# Altium schematic symbol library Supernova Connectors.SchLib: 270 symbols (part 2 of 2)
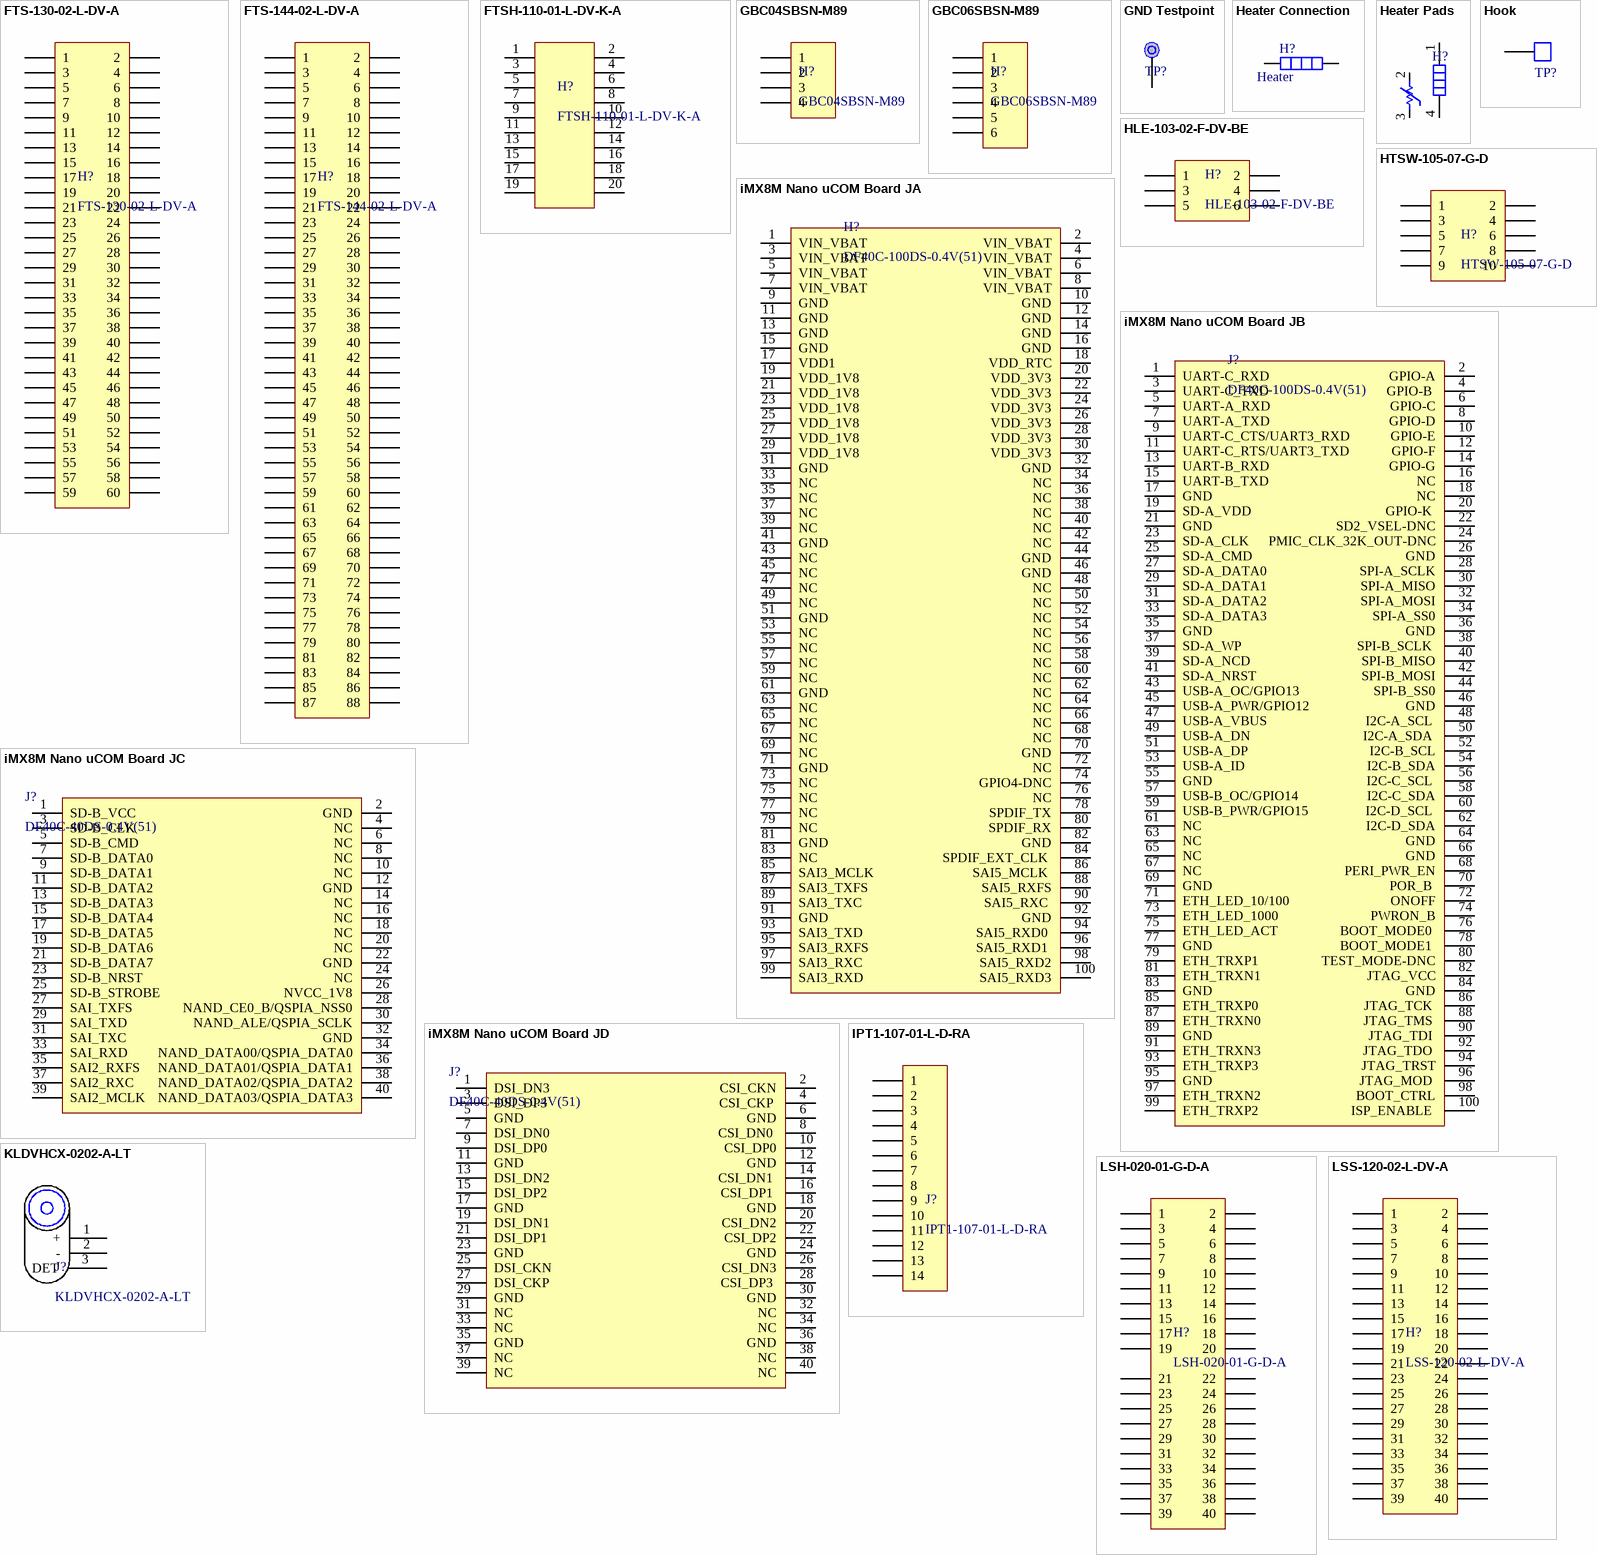
[diagram p9: symbols FTS-130-02-L-DV-A to LSS-120-02-L-DV-A]

## iMX8M Nano uCOM Board JC
designator J?, comment DF40C-40DS-0.4V(51)
CONN RCPT 40POS SMD GOLD; Manufacturer_Name: Hirose; Datasheet Link: https://www.hirose.com/product/download/?distributor=digikey&type=2d&lang=en&num=DF40C-40DS-0.4V(51); Height: 1.65mm; Manufacturer_Part_Number: DF40C-40DS-0.4V(51); Mouser Part Number: 798-DF40C40DS0.4V51; Mouser Price/Stock: https://www.mouser.co.uk/ProductDetail/Hirose-Connector/DF40C-40DS-0.4V51?qs=eDUdFcBPps3TglLeCFrcgA%3D%3D; Arrow Part Number: DF40C-40DS-0.4V(51); Arrow Price/Stock: https://www.arrow.com/en/products/df40c-40ds-0.4v-51/hirose-electric; Supplier 1: Digi-Key; Supplier 2: Mouser; Supplier Part Number 1: H11625CT-ND; Supplier Part Number 2: 798-DF40C40DS0.4V51
footprint DF40C40DS04V51 42 pins
footprint DF40C40DS04V51
pins: 1 SD-B_VCC, 2 GND, 3 SD-B_CLK, 4 NC, 5 SD-B_CMD , 6 NC, 7 SD-B_DATA0 , 8 NC, 9 SD-B_DATA1, 10 NC, 11 SD-B_DATA2 , 12 GND, 13 SD-B_DATA3, 14 NC, 15 SD-B_DATA4, 16 NC, 17 SD-B_DATA5, 18 NC, 19 SD-B_DATA6, 20 NC, 21 SD-B_DATA7, 22 GND, 23 SD-B_NRST, 24 NC, 25 SD-B_STROBE, 26 NVCC_1V8, 27 SAI_TXFS, 28 NAND_CE0_B/QSPIA_NSS0, 29 SAI_TXD, 30 NAND_ALE/QSPIA_SCLK, 31 SAI_TXC, 32 GND, 33 SAI_RXD , 34 NAND_DATA00/QSPIA_DATA0, 35 SAI2_RXFS, 36 NAND_DATA01/QSPIA_DATA1, 37 SAI2_RXC, 38 NAND_DATA02/QSPIA_DATA2, 39 SAI2_MCLK, 40 NAND_DATA03/QSPIA_DATA3

## iMX8M Nano uCOM Board JD
designator J?, comment DF40C-40DS-0.4V(51)
CONN RCPT 40POS SMD GOLD; Manufacturer_Name: Hirose; Datasheet Link: https://www.hirose.com/product/download/?distributor=digikey&type=2d&lang=en&num=DF40C-40DS-0.4V(51); Height: 1.65mm; Manufacturer_Part_Number: DF40C-40DS-0.4V(51); Mouser Part Number: 798-DF40C40DS0.4V51; Mouser Price/Stock: https://www.mouser.co.uk/ProductDetail/Hirose-Connector/DF40C-40DS-0.4V51?qs=eDUdFcBPps3TglLeCFrcgA%3D%3D; Arrow Part Number: DF40C-40DS-0.4V(51); Arrow Price/Stock: https://www.arrow.com/en/products/df40c-40ds-0.4v-51/hirose-electric; Supplier 1: Digi-Key; Supplier 2: Mouser; Supplier Part Number 1: H11625CT-ND; Supplier Part Number 2: 798-DF40C40DS0.4V51
footprint DF40C40DS04V51 42 pins
footprint DF40C40DS04V51
pins: 1 DSI_DN3, 2 CSI_CKN, 3 DSI_DP3 , 4 CSI_CKP , 5 GND, 6 GND, 7 DSI_DN0, 8 CSI_DN0 , 9 DSI_DP0, 10 CSI_DP0, 11 GND, 12 GND, 13 DSI_DN2 , 14 CSI_DN1 , 15 DSI_DP2, 16 CSI_DP1 , 17 GND, 18 GND, 19 DSI_DN1 , 20 CSI_DN2, 21 DSI_DP1 , 22 CSI_DP2, 23 GND, 24 GND, 25 DSI_CKN, 26 CSI_DN3, 27 DSI_CKP, 28 CSI_DP3 , 29 GND, 30 GND, 31 NC, 32 NC, 33 NC, 34 NC, 35 GND, 36 GND, 37 NC, 38 NC, 39 NC, 40 NC

## IPT1-107-01-L-D-RA
designator J?
Header Side Panel IPT1-107-01-L-D-RA; System: Connector; Supplier 1: Digi-Key; Supplier Part Number 1: SAM11441-ND; Supplier 2: Newark; Supplier Part Number 2: 56AC5745
footprint IPT1-107-01-L-D-RA
pins: 1, 2, 3, 4, 5, 6, 7, 8, 9, 10, 11, 12, 13, 14

## KLDVHCX-0202-A-LT
designator J?
Header Barrel Vertical; Supplier 1: Digi-Key; Supplier 2: Mouser; Supplier Part Number 1: 2092-KLDVHCX-0202-A-LT-ND; Supplier Part Number 2: 806-KLDVHCX0202-A-LT
footprint KLDVHCX-0202-A-LT
pins: 1 +, 2 -, 3 DET

## LSH-020-01-G-D-A
designator H?
Header 40 Pin LSH; System: Connector; Supplier 1: Digi-Key; Supplier 2: Mouser; Supplier 3: Digi-Key; Supplier Part Number 1: SAM9670-ND; Supplier Part Number 2: 200-LSH02001GDA; Supplier Part Number 3: SAM15427CT-ND
footprint LSH-020-01-G-D-A
pins: 1, 2, 3, 4, 5, 6, 7, 8, 9, 10, 11, 12, 13, 14, 15, 16, 17, 18, 19, 20, 21, 22, 23, 24, 25, 26, 27, 28, 29, 30, 31, 32, 33, 34, 35, 36, 37, 38, 39, 40

## LSS-120-02-L-DV-A
designator H?
Header 40 Pin LSS 6mm; System: Connector; Supplier 1: Digi-Key; Supplier Part Number 1: SAM9677-ND; Supplier 2: Newark; Supplier 3: Digi-Key; Supplier Part Number 2: 85T5354; Supplier Part Number 3: SAM11458-ND
footprint LLS-120-02-L-DV-A (40 pin hermapheroditic connector)
pins: 1, 2, 3, 4, 5, 6, 7, 8, 9, 10, 11, 12, 13, 14, 15, 16, 17, 18, 19, 20, 21, 22, 23, 24, 25, 26, 27, 28, 29, 30, 31, 32, 33, 34, 35, 36, 37, 38, 39, 40

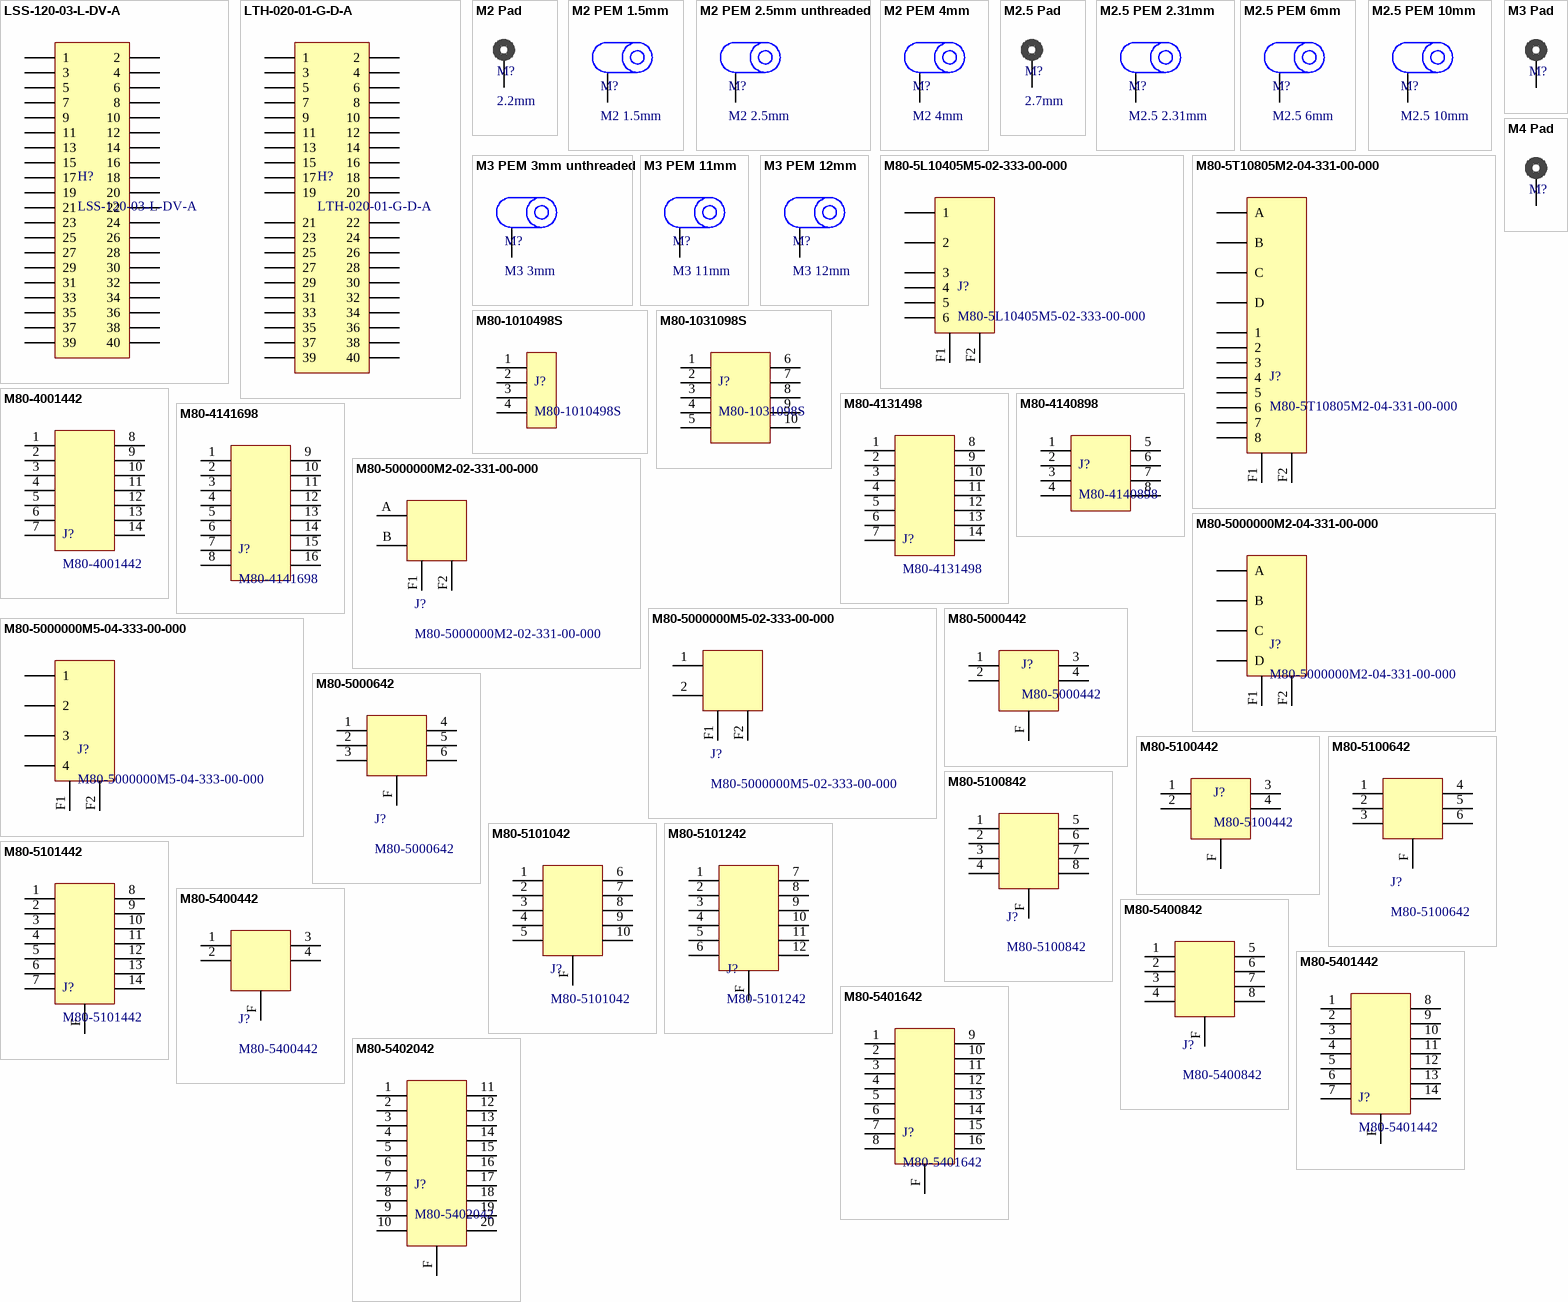
[diagram p5: symbols LSS-120-03-L-DV-A to M80-5402042]

## LSS-120-03-L-DV-A
designator H?
Header 40 Pin LSS 4mm; System: Connector; Supplier 1: Digi-Key; Supplier Part Number 1: SAM9678-ND; Supplier 2: Newark; Supplier 3: Digi-Key; Supplier Part Number 2: 85T5356; Supplier Part Number 3: LSS-120-03-L-DV-A-K-ND
footprint LLS-120-03-L-DV-A (40 pin hermapheroditic connector)
pins: 1, 2, 3, 4, 5, 6, 7, 8, 9, 10, 11, 12, 13, 14, 15, 16, 17, 18, 19, 20, 21, 22, 23, 24, 25, 26, 27, 28, 29, 30, 31, 32, 33, 34, 35, 36, 37, 38, 39, 40

## LTH-020-01-G-D-A
designator H?
Header 40 Pin LTH; System: Connector; Supplier 1: Digi-Key; Supplier 2: Mouser; Supplier 3: Digi-Key; Supplier Part Number 1: SAM12691-ND; Supplier Part Number 2: 200-LTH02001GDA; Supplier Part Number 3: SAM14178CT-ND
footprint LTH-020-01-G-D-A
pins: 1, 2, 3, 4, 5, 6, 7, 8, 9, 10, 11, 12, 13, 14, 15, 16, 17, 18, 19, 20, 21, 22, 23, 24, 25, 26, 27, 28, 29, 30, 31, 32, 33, 34, 35, 36, 37, 38, 39, 40

## M2 Pad
designator M?, comment 2.2mm  (no BOM)
Mounting Hole for M2 fasteners; System: Connector
footprint M2 HOLE
footprint M2 HOLE - single layer
footprint M2 HOLE - single layer - SM Defined
footprint M2 HOLE - SMALL - single layer - SM Defined
footprint M2 HOLE - tiny - single layer
footprint M2 HOLE - SMALL
footprint M2 HOLE - SMALL - Small Bottom
footprint M2 HOLE - RRI
pins: 1

## M2 PEM 1.5mm
designator M?, comment M2 1.5mm
PEM, M2 1.5mm; System: Connector; Supplier 1: Mouser; Supplier Part Number 1: 710-9774015243R; Supplier 2: Digi-Key; Supplier Part Number 2: 732-7069-1-ND
footprint M2 PEM 1.5mm (2.5mm M2 PEM)
footprint M2 PEM 1.5mm - NPTH (2.5mm M2 PEM)
pins: 1

## M2 PEM 2.5mm unthreaded
designator M?, comment M2 2.5mm
PEM, M2 2.5mm unthreaded; System: Connector; Supplier 1: Digi-Key; Supplier Part Number 1: 732-10939-1-ND; Supplier 2: Mouser; Supplier Part Number 2: 710-9774025943R
footprint M2 PEM 2.5mm (2.5mm M2 PEM)
footprint M2 PEM 2.5mm - NPTH (2.5mm M2 PEM)
pins: 1

## M2 PEM 4mm
designator M?, comment M2 4mm
PEM, M2 4mm; System: Connector; Supplier 1: Digi-Key; Supplier 2: Mouser; Supplier Part Number 2: 710-9774040243R; Supplier Part Number 1: 732-7090-1-ND
footprint M2 PEM 4mm (4mm M2 PEM)
footprint M2 PEM 4mm - NPTH (4mm M2 PEM)
pins: 1

## M2.5 Pad
designator M?, comment 2.7mm  (no BOM)
Mounting Hole for M2.5 fasteners; System: Connector
footprint M2.5 Hole
footprint M2.5 Hole - top-bottom
pins: 1

## M2.5 PEM 2.31mm
designator M?, comment M2.5 2.31mm
PEM, M2.5 2.31mm; Manufacturer Part Number 1: None; System: Connector
footprint M2.5 PEM 2.31mm (2.31mm M2.5 PEM)
footprint M2.5 PEM 2.31mm - NPTH (2.31mm M2.5 PEM)
pins: 1

## M2.5 PEM 6mm
designator M?, comment M2.5 6mm
PEM, M2.5 6mm; System: Connector; Supplier 1: Digi-Key; Supplier 2: Mouser; Supplier Part Number 1: 732-7102-1-ND; Supplier Part Number 2: 710-9774060151R
footprint M2.5 PEM 6mm (6mm M2.5 PEM)
footprint M2.5 PEM 6mm - NPTH (6mm M2.5 PEM)
pins: 1

## M2.5 PEM 10mm
designator M?, comment M2.5 10mm
PEM, M2.5 10mm; System: Connector; Supplier 1: Mouser; Supplier Part Number 1: 710-9774100151R; Supplier 2: Digi-Key; Supplier Part Number 2: 732-7117-1-ND
footprint M2.5 PEM 10mm (10mm M2.5 PEM)
pins: 1

## M3 Pad
designator M?, comment 3.2mm  (value not drawn)  (no BOM)
Mounting Hole for M3 fasteners; System: Connector
footprint M3 HOLE
footprint M3 HOLE - TOP
footprint M3 HOLE - TOP+BOTTOM
pins: 1

## M3 PEM 3mm unthreaded
designator M?, comment M3 3mm
PEM, M3 3mm unthreaded; System: Connector; Supplier 1: Mouser; Supplier Part Number 1: 710-9774030960R; Supplier 2: Digi-Key; Supplier Part Number 2: 732-7087-1-ND
footprint 3mm PEM 3mm
pins: 1

## M3 PEM 11mm
designator M?, comment M3 11mm
PEM, M3 11mm; System: Connector; Supplier 1: Digi-Key; Supplier Part Number 1: 732-5278-1-ND; Supplier 2: Mouser; Supplier Part Number 2: 710-9774110360R
footprint M3 PEM 11mm
footprint M3 PEM 11mm - NPTH
pins: 1

## M3 PEM 12mm
designator M?, comment M3 12mm
PEM, M3 12mm; System: Connector; Supplier 1: Digi-Key; Supplier Part Number 1: 732-5279-1-ND; Supplier 2: Mouser; Supplier Part Number 2: 710-9774120360R
footprint M3 PEM 12mm
footprint M3 PEM 12mm - NPTH
pins: 1

## M4 Pad
designator M?, comment 4.4mm  (value not drawn)  (no BOM)
Mounting Hole for M4 fasteners; System: Connector
footprint M4 HOLE
pins: 1

## M80-5L10405M5-02-333-00-000
designator J?
Header M80 2POS Power + 4signal RA Screw-lock; System: Connector; Supplier 1: Mouser; Supplier Part Number 1: 855-M805L10405M50233; Supplier 2: Digi-Key; Supplier Part Number 2: 952-2923-ND; Supplier 3: Farnell; Supplier Part Number 3: 2853745
footprint M80-5L10405M5-02-333-00-000
pins: 1, 2, 3, 4, 5, 6, F1 F, F2 F

## M80-5T10805M2-04-331-00-000
designator J?
Header M80 4POS Power + 8signal Screw-lock; System: Connector; Supplier 1: Mouser; Supplier Part Number 1: 855-M805L10405M50233; Supplier 2: Digi-Key; Supplier Part Number 2: 952-2923-ND; Supplier 3: Farnell; Supplier Part Number 3: 2853745
footprint M80-5T10805M2-04-331-00-000 - no silk
footprint M80-5T10805M2-04-331-00-000
footprint M80-5T10805M2-04-331-00-000 - no silk - nuts
pins: 1, 2, 3, 4, 5, 6, 7, 8, A, B, C, D, F1 F, F2 F

## M80-1010498S
designator J?
Housing M80 4POS Latch-lock Single Row; Value: 14 Power Pins; Package / Case: THT, RA; Operating Temperature: -55°C ~ 85°C; Supplier 1: Digi-Key; Supplier 2: Mouser; Supplier Part Number 1: 952-3521-ND; Supplier Part Number 2: 855-M80-1010498S
pins: 1, 2, 3, 4

## M80-1031098S
designator J?
Housing M80 10POS Latch-lock; Value: 14 Power Pins; Package / Case: THT, RA; Operating Temperature: -55°C ~ 85°C; Supplier 1: Mouser; Supplier 2: Digi-Key; Supplier Part Number 1: 855-M80-1031098S; Supplier Part Number 2: 952-3527-ND
pins: 1, 2, 3, 4, 5, 6, 7, 8, 9, 10

## M80-4001442
designator J?
Header M80 14POS Vertical Screw-lock Female; Manufacturer: Harwin; Manufacturer Part Number: M80-5101442; Value: 14 Power Pins; System: Connector; Package / Case: THT, RA; Operating Temperature: -55°C ~ 85°C; Supplier 1: Mouser; Supplier Part Number 1: 855-M80-5101405; Supplier 2: Digi-Key; Supplier 3: Mouser; Supplier Part Number 2: 952-1886-ND; Supplier Part Number 3: 855-M80-4001442
footprint M80-4001442
pins: 1, 2, 3, 4, 5, 6, 7, 8, 9, 10, 11, 12, 13, 14

## M80-4131498
designator J?
Housing M80 14POS Screw-lock; Value: 14 Power Pins; Package / Case: THT, RA; Operating Temperature: -55°C ~ 85°C; Supplier 1: Mouser; Supplier 2: Digi-Key; Supplier Part Number 1: 855-M80-4131498; Supplier Part Number 2: 952-3702-ND
pins: 1, 2, 3, 4, 5, 6, 7, 8, 9, 10, 11, 12, 13, 14

## M80-4140898
designator J?
Housing M80 8POS Screw-lock; Value: 14 Power Pins; Package / Case: THT, RA; Operating Temperature: -55°C ~ 85°C; Supplier 1: Mouser; Supplier 2: Digi-Key; Supplier Part Number 2: 952-3732-ND; Supplier Part Number 1: 855-M80-4140898
pins: 1, 2, 3, 4, 5 8, 6, 7, 8

## M80-4141698
designator J?
Housing M80 16POS Screw-lock; Value: 14 Power Pins; Package / Case: THT, RA; Operating Temperature: -55°C ~ 85°C; Supplier 1: Digi-Key; Supplier Part Number 1: 952-3736-ND; Supplier 2: Mouser; Supplier Part Number 2: 855-M80-4141698
pins: 1, 2, 3, 4, 5, 6, 7, 8, 9, 10, 11, 12, 13, 14, 15, 16

## M80-5000000M2-02-331-00-000
designator J?
Header M80 2POS Power Screw-lock; Manufacturer: Harwin; System: Connector; Operating Temperature: -55°C ~ 85°C; Supplier 1: Digi-Key; Supplier Part Number 1: 952-2577-ND; Supplier 2: Mouser; Supplier Part Number 2: 855-M805M202331
footprint M80-5000000M2-02-331-00-000
footprint M80-5000000M2-02-331-00-000 - No Silk
footprint M80-5000000M2-02-331-00-000 - No Silk - nuts
footprint M80-5000000M2-02-331-00-000 - nuts
pins: A, B, F1 F, F2 F

## M80-5000000M2-04-331-00-000
designator J?
Header M80 4POS Power Screw-lock; System: Connector; Supplier 1: Mouser; Supplier Part Number 1: 855-M80500000M204331; Supplier 2: Digi-Key; Supplier Part Number 2: 952-1652-ND
footprint M80-5000000M2-04-331-00-000 - no silk
footprint M80-5000000M2-04-331-00-000
footprint M80-5000000M2-04-331-00-000 - no silk - nuts
pins: A, B, C, D, F1 F, F2 F

## M80-5000000M5-02-333-00-000
designator J?
Header M80 2POS Power RA Screw-lock; Manufacturer: Harwin; Manufacturer Part Number: M80-5401442; Value: 14 Power Pins; System: Connector; Package / Case: THT, RA; Operating Temperature: -55°C ~ 85°C; Supplier 1: Digi-Key; Supplier Part Number 1: 952-2578-ND; Supplier 2: Mouser; Supplier Part Number 2: 855-M805000M50233300
footprint M80-5000000M5-02-333-00-000
footprint M80-5000000M5-02-333-00-000 - button screws
pins: 1, 2, F1 F, F2 F

## M80-5000000M5-04-333-00-000
designator J?
Header M80 4POS Power RA Screw-lock; System: Connector; Supplier 1: Digi-Key; Supplier Part Number 1: 952-3955-5-ND; Supplier 2: Mouser; Supplier Part Number 2: 855-M805000000M50433
footprint M80-5000000M5-04-333-00-000
pins: 1, 2, 3, 4, F1 F, F2 F

## M80-5000442
designator J?
Header M80 4POS Vertical Screw-lock no studs; Manufacturer: Harwin; Manufacturer Part Number: M80-5101442; Value: 14 Power Pins; System: Connector; Package / Case: THT, RA; Operating Temperature: -55°C ~ 85°C; Supplier 1: Mouser; Supplier Part Number 1: 855-M80-5100442; Supplier 2: Digi-Key; Supplier Part Number 2: 952-2343-ND
footprint M80-5000442
footprint M80-5000442 - no holes
pins: 1, 2, 3, 4, F

## M80-5000642
designator J?
Header M80 6POS Vertical Screw-lock no studs; Manufacturer: Harwin; Manufacturer Part Number: M80-5101442; Value: 14 Power Pins; System: Connector; Package / Case: THT, RA; Operating Temperature: -55°C ~ 85°C; Supplier 1: Mouser; Supplier Part Number 1: 855-M80-5000642; Supplier 2: Digi-Key; Supplier Part Number 2: 952-1000-5-ND
footprint M80-5000642
footprint M80-5000642 - no holes
pins: 1, 2, 3, 4, 5, 6, F

## M80-5100442
designator J?
Header M80 4POS Vertical Screw-lock; Manufacturer: Harwin; Manufacturer Part Number: M80-5101442; Value: 14 Power Pins; System: Connector; Package / Case: THT, RA; Operating Temperature: -55°C ~ 85°C; Supplier 1: Digi-Key; Supplier Part Number 1: 952-2343-ND; Supplier 2: Mouser; Supplier Part Number 2: 855-M80-5100442
footprint M80-5100442
pins: 1, 2, 3, 4, F

## M80-5100642
designator J?
Header M80 6POS Vertical Screw-lock; Manufacturer: Harwin; Manufacturer Part Number: M80-5101442; Value: 14 Power Pins; System: Connector; Package / Case: THT, RA; Operating Temperature: -55°C ~ 85°C; Supplier 1: Digi-Key; Supplier Part Number 1: 952-3550-ND; Supplier 2: Newark; Supplier Part Number 2: 45AJ6518
footprint M80-5100642
pins: 1, 2, 3, 4, 5, 6, F

## M80-5100842
designator J?
Header M80 8POS Vertical Screw-lock; Manufacturer: Harwin; Manufacturer Part Number: M80-5101442; Value: 14 Power Pins; System: Connector; Package / Case: THT, RA; Operating Temperature: -55°C ~ 85°C; Supplier 1: Digi-Key; Supplier Part Number 1: 952-2341-ND; Supplier 2: Mouser; Supplier Part Number 2: 855-M80-5100842
footprint M80-5100842
pins: 1, 2, 3, 4, 5, 6, 7, 8, F

## M80-5101042
designator J?
Header M80 10POS Vertical Screw-lock; Manufacturer: Harwin; Manufacturer Part Number: M80-5101442; Value: 14 Power Pins; System: Connector; Package / Case: THT, RA; Operating Temperature: -55°C ~ 85°C; Supplier 1: Digi-Key; Supplier 2: Mouser; Supplier 3: Mouser; Supplier 4: Digi-Key; Supplier Part Number 1: 952-1009-5-ND; Supplier Part Number 4: 952-2914-ND; Supplier Part Number 2: 855-M80-5101042; Supplier Part Number 3: 855-M80-5101022
footprint M80-5101042
footprint M80-5101042 - NO SILK
footprint M80-5101042 - NO SILK - NUTS
pins: 1, 2, 3, 4, 5, 6, 7, 8, 9, 10, F

## M80-5101242
designator J?
Header M80 12POS Vertical Screw-lock; Manufacturer: Harwin; Manufacturer Part Number: M80-5101442; Value: 14 Power Pins; System: Connector; Package / Case: THT, RA; Operating Temperature: -55°C ~ 85°C; Supplier 1: Digi-Key; Supplier Part Number 1: 952-2580-ND; Supplier 2: Mouser; Supplier Part Number 2: 855-M80-5101242
footprint M80-5101242
pins: 1, 2, 3, 4, 5, 6, 7, 8, 9, 10, 11, 12, F

## M80-5101442
designator J?
Header M80 14POS Vertical Screw-lock; Manufacturer: Harwin; Value: 14 Power Pins; System: Connector; Mass_g: 2.198; Manufacturer Part Number: M80-5101442; Package / Case: THT, RA; Operating Temperature: -55°C ~ 85°C; Supplier 1: Digi-Key; Supplier Part Number 1: 952-1010-5-ND; Supplier 2: Mouser; Supplier 3: Newark; Supplier 4: Mouser; Supplier Part Number 2: 855-M80-5101442; Supplier Part Number 3: 92K7305; Supplier Part Number 4: 855-M80-5101405
footprint M80-5101442
pins: 1, 2, 3, 4, 5, 6, 7, 8, 9, 10, 11, 12, 13, 14, F

## M80-5400442
designator J?
Header M80 4POS RA Screw-lock; Manufacturer: Harwin; Manufacturer Part Number: M80-5401442; Value: 8 Power Pins; System: Connector; Package / Case: THT, RA; Operating Temperature: -55°C ~ 85°C; Supplier 1: Digi-Key; Supplier Part Number 1: 952-2583-ND; Supplier 2: Mouser; Supplier Part Number 2: 855-M80-5400442
footprint M80-5400442 (4 pin Datamate connector Male Horizontal PC Tail)
pins: 1, 2, 3, 4, F

## M80-5400842
designator J?
Header M80 8POS RA Screw-lock; Manufacturer: Harwin; Manufacturer Part Number: M80-5401442; Value: 8 Power Pins; System: Connector; Package / Case: THT, RA; Operating Temperature: -55°C ~ 85°C; Supplier 1: Digi-Key; Supplier Part Number 1: 952-2584-ND; Supplier 2: Mouser; Supplier 3: Mouser; Supplier Part Number 2: 855-M80-5400842; Supplier Part Number 3: 855-M80-5400805
footprint M80-5400842 (8 pin Datamate connector Male Horizontal PC Tail)
pins: 1, 2, 3, 4, 5, 6, 7, 8, F

## M80-5401442
designator J?
Header M80 14POS RA Screw-lock; Manufacturer: Harwin; Value: 14 Power Pins; System: Connector; Mass_g: 2.198; Manufacturer Part Number: M80-5401442; Supplier 1: Digi-Key; Supplier Part Number 1: 952-1026-5-ND; Package / Case: THT, RA; Operating Temperature: -55°C ~ 85°C; Supplier 2: Mouser; Supplier 3: Newark; Supplier Part Number 2: 855-M80-5401442; Supplier Part Number 3: 92K7321
footprint M80-5401442 (14 pin Datamate connector Male Horizontal PC Tail)
footprint M80-5401442 - button screws (14 pin Datamate connector Male Horizontal PC Tail)
pins: 1, 2, 3, 4, 5, 6, 7, 8, 9, 10, 11, 12, 13, 14, F

## M80-5401642
designator J?
Header M80 16POS RA Screw-lock; Manufacturer: Harwin; Manufacturer Part Number: M80-5401442; Value: 14 Power Pins; System: Connector; Package / Case: THT, RA; Operating Temperature: -55°C ~ 85°C; Supplier 1: Mouser; Supplier 2: Digi-Key; Supplier Part Number 1: 855-M80-5401642; Supplier Part Number 2: M80-5401642-ND
footprint M80-5401642 (16 pin Datamate connector Male Horizontal PC Tail)
pins: 1, 2, 3, 4, 5, 6, 7, 8, 9, 10, 11, 12, 13, 14, 15, 16, F

## M80-5402042
designator J?
Header M80 20POS RA Screw-lock; Manufacturer: Harwin; Manufacturer Part Number: M80-5401442; Value: 20 Power Pins; System: Connector; Mass_g: 2.467; Package / Case: THT, RA; Operating Temperature: -55°C ~ 85°C; Supplier 1: Digi-Key; Supplier Part Number 1: 952-1027-5-ND; Supplier 2: Newark; Supplier Part Number 2: 92K7322; Supplier 3: Mouser; Supplier Part Number 3: 855-M80-5402005
footprint M80-5402042 (16 pin Datamate connector Male Horizontal PC Tail)
footprint M80-5402042 - BUTTON SCREWS (20 pin Datamate connector Male Horizontal PC Tail)
pins: 1, 2, 3, 4, 5, 6, 7, 8, 9, 10, 11, 12, 13, 14, 15, 16, 17, 18, 19, 20, F

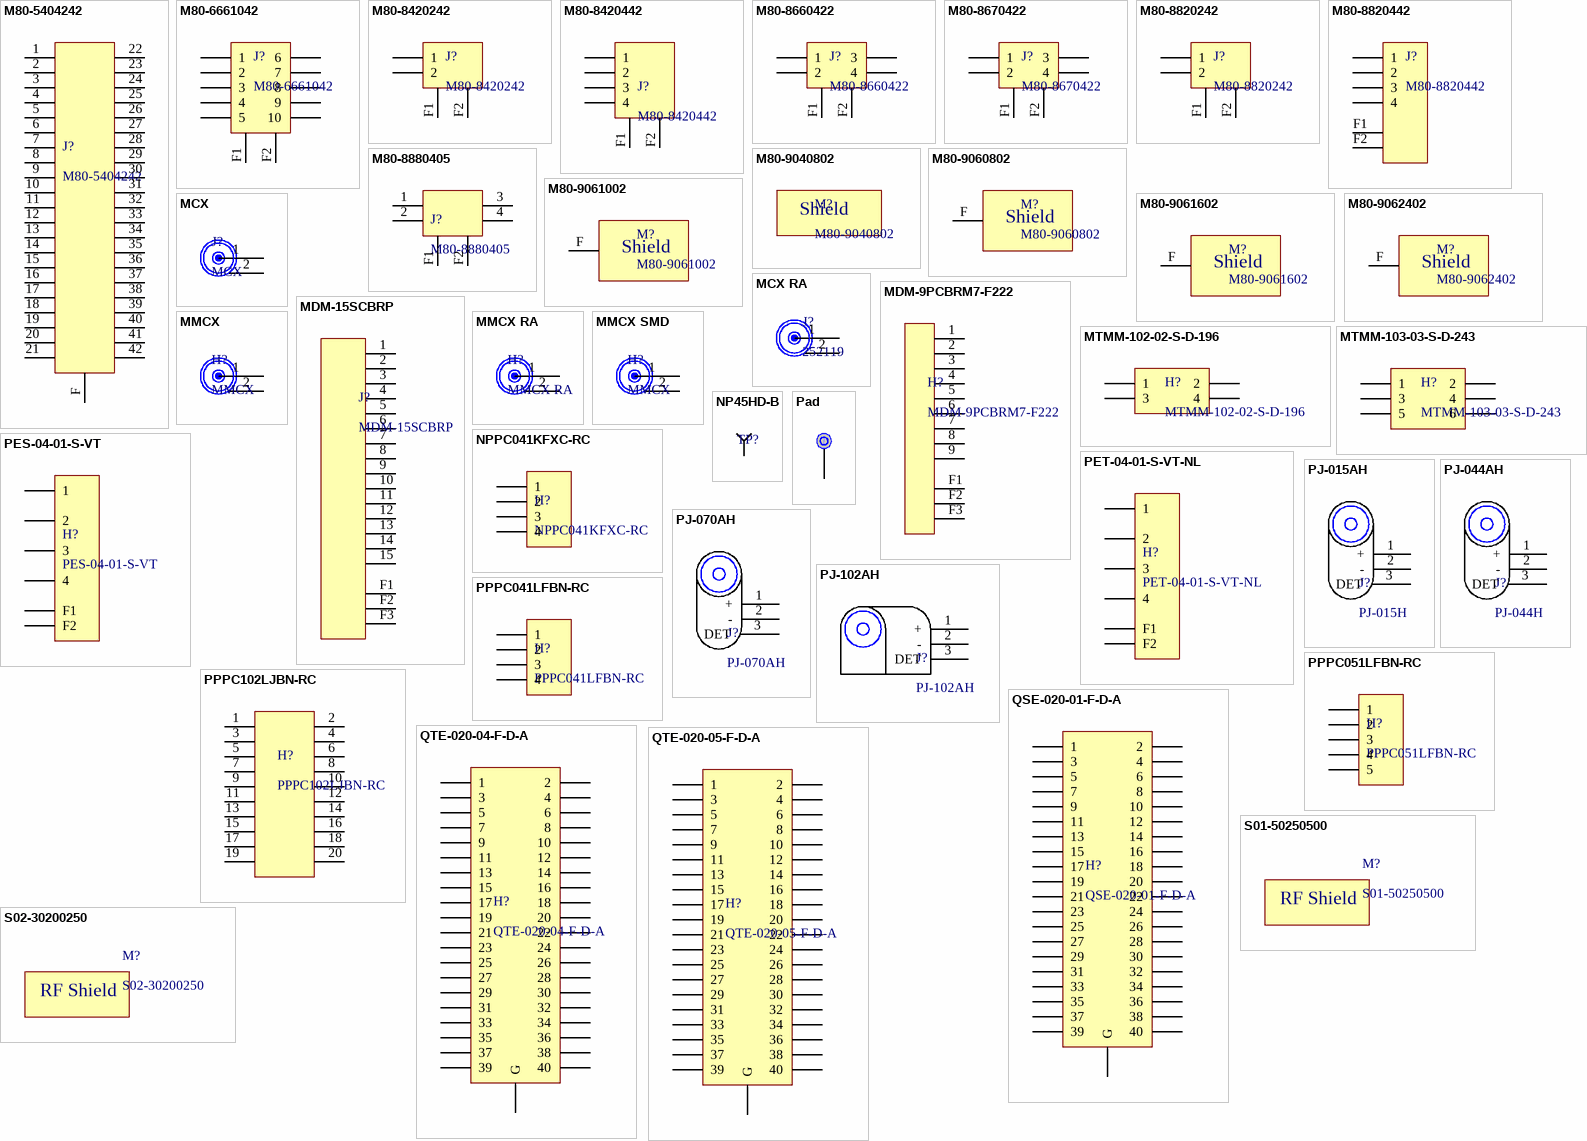
[diagram p6: symbols M80-5404242 to S02-30200250]

## M80-5404242
designator J?
Header M80 42POS RA Screw-lock; Manufacturer: Harwin; Manufacturer Part Number: M80-5401442; Value: 20 Power Pins; System: Connector; Mass_g: 2.467; Package / Case: THT, RA; Operating Temperature: -55°C ~ 85°C; Supplier 1: Digi-Key; Supplier Part Number 1: 952-1030-5-ND; Supplier 2: Mouser; Supplier Part Number 2: 855-M80-5404242; Supplier 3: Newark; Supplier Part Number 3: 56AC6233
footprint M80-5404242 (42 pin Datamate connector Male Horizontal PC Tail)
pins: 1, 2, 3, 4, 5, 6, 7, 8, 9, 10, 11, 12, 13, 14, 15, 16, 17, 18, 19, 20, 21, 22, 23, 24, 25, 26, 27, 28, 29, 30, 31, 32, 33, 34, 35, 36, 37, 38, 39, 40, 41, 42, F

## M80-6661042
designator J?
Header M80 10POS RA Latch-lock; System: Connector; Supplier 1: Digi-Key; Supplier Part Number 1: 952-2098-ND; Supplier 2: Newark; Supplier Part Number 2: 74M3474; Supplier 3: Mouser; Supplier Part Number 3: 855-M80-6661042
footprint M80-6661042
pins: 1, 2, 3, 4, 5, 6, 7, 8, 9, 10, F1 F, F2 F

## M80-8420242
designator J?
Header M80 2POS RA Latch-lock; System: Connector; Supplier 1: Digi-Key; Supplier Part Number 1: 952-1076-5-ND; Supplier 2: Mouser; Supplier Part Number 2: 855-M80-8420242
footprint M80-8420242
pins: 1, 2, F1 F, F2 F

## M80-8420442
designator J?
Header M80 4POS RA Latch-lock; System: Connector; Supplier 1: Digi-Key; Supplier Part Number 1: 952-1078-5-ND; Supplier 2: Mouser; Supplier Part Number 2: 855-M80-8420442
footprint M80-8420442
pins: 1, 2, 3, 4, F1 F, F2 F

## M80-8660422
designator J?
Header M80 4POS RA Latch-lock; System: Connector; Supplier 1: Digi-Key; Supplier Part Number 1: 952-2588-ND; Supplier 2: Newark; Supplier 3: Mouser; Supplier Part Number 2: 01E9547; Supplier Part Number 3: 855-M80-8660422
footprint M80-8660422
pins: 1, 2, 3, 4, F1 F, F2 F

## M80-8670422
designator J?
Header M80 4POS Veritcal Latch-lock; System: Connector; Supplier 1: Digi-Key; Supplier Part Number 1: 952-2414-5-ND; Supplier 2: Newark; Supplier 3: Mouser; Supplier 4: Newark; Supplier Part Number 2: 01E9554; Supplier Part Number 3: 855-M80-8670422; Supplier Part Number 4: 97W2387
footprint M80-8670422
pins: 1, 2, 3, 4, F1 F, F2 F

## M80-8820242
designator J?
Header M80 2POS Latch-lock; System: Connector; Supplier 1: Digi-Key; Supplier Part Number 1: 952-1069-5-ND; Supplier 2: Mouser; Supplier Part Number 2: 855-M80-8820242
footprint M80-8820242
pins: 1, 2, F1 F, F2 F

## M80-8820442
designator J?
Header M80 4POS Veritcal Single Row Latch-lock; System: Connector; Supplier 1: Digi-Key; Supplier Part Number 1: 952-1071-5-ND; Supplier 2: Mouser; Supplier 3: Newark; Supplier 4: Newark; Supplier Part Number 2: 855-M80-8820442; Supplier Part Number 3: 63K4385; Supplier Part Number 4: 75Y6432
footprint M80-8820442
pins: 1, 2, 3, 4, F1 F, F2 F

## M80-8880405
designator J?
Housing M80 4POS Latch-lock; Value: 14 Power Pins; Package / Case: THT, RA; Operating Temperature: -55°C ~ 85°C; Supplier 1: Mouser; Supplier 2: Digi-Key; Supplier Part Number 1: 855-M80-8880405; Supplier Part Number 2: 952-1196-ND
pins: 1, 2, 3, 4, F1 F, F2 F

## M80-9040802
designator M?
M80 Shield 8 pin RA; Supplier 1: Digi-Key; Supplier Part Number 1: 952-4159-ND; Supplier 2: Mouser; Supplier Part Number 2: 855-M80-9060802
footprint M80-9040802
footprint M80-9040802 - No Holes
text: Shield

## M80-9060802
designator M?
M80 Shield 8 pin; Supplier 1: Digi-Key; Supplier Part Number 1: 952-4159-ND; Supplier 2: Mouser; Supplier Part Number 2: 855-M80-9060802
footprint M80-9060802
pins: F 38
text: Shield

## M80-9061002
designator M?
M80 Shield 10 pin; Supplier 1: Mouser; Supplier Part Number 1: 855-M80-9061002; Supplier 2: Digi-Key; Supplier Part Number 2: 952-4140-ND
footprint M80-9061002
pins: F 38
text: Shield

## M80-9061602
designator M?
M80 Shield 16 pin; Supplier 1: Mouser; Supplier Part Number 1: 855-M80-9061602; Supplier 2: Digi-Key; Supplier Part Number 2: 952-4161-ND
footprint m80-9061602
pins: F 38
text: Shield

## M80-9062402
designator M?
M80 Shield 24 pin; Supplier 1: Mouser; Supplier Part Number 1: 855-M80-9062402; Supplier 2: Digi-Key; Supplier Part Number 2: 952-4162-ND
footprint m80-9062402
pins: F 38
text: Shield

## MCX
designator J?
Header MCX Through-hole vertical; Supplier 1: Digi-Key; Supplier Part Number 1: SAM8944-ND; Supplier 2: Newark; Supplier 3: Digi-Key; Supplier Part Number 2: 56AC6098; Supplier Part Number 3: J539-ND
footprint MCX
pins: 1 7, 2 7

## MCX RA
designator J?, comment 252119
Connector MCX RA; Supplier 1: Digi-Key; Supplier 2: Mouser; Supplier Part Number 1: ACX1260-ND; Supplier Part Number 2: 523-252119
pins: 1 7, 2 7

## MDM-9PCBRM7-F222
designator H?
Header microD 9 pin; System: Connector; Supplier 1: Newark; Supplier Part Number 1: 73H6073; Supplier 2: Digi-Key; Supplier Part Number 2: IMDM-9PCBRM7-F222-ND
footprint microD 9
pins: 1 0, 2 0, 3 0, 4 0, 5 0, 6 0, 7 0, 8 0, 9 0, F1 F, F2 F, F3 F

## MDM-15SCBRP
designator J?
Header microD 15 pin; System: Connector; Supplier 1: Digi-Key; Supplier 2: Newark; Supplier Part Number 1: 1003-1282-ND; Supplier Part Number 2: 20M4865
footprint microD 15
pins: 1 0, 2 0, 3 0, 4 0, 5 0, 6 0, 7 0, 8 0, 9 0, 10 1, 11 2, 12 3, 13 4, 14 5, 15 6, F1 F, F2 F, F3 F

## MMCX
designator H?
Header MMCX Through-hole vertical; Mass_g: 0.26; Supplier 1: Digi-Key; Supplier Part Number 1: WM9481-ND; Supplier 2: Digi-Key; Supplier 3: Digi-Key; Supplier Part Number 2: WM5557-ND; Supplier Part Number 3: SAM10617-ND
footprint mmcx
pins: 1 7, 2 7

## MMCX RA
designator H?
Header MMCX Through-hole Right angle; Supplier 1: Digi-Key; Supplier Part Number 1: SAM10615-ND; Supplier 2: Digi-Key; Supplier Part Number 2: J599-ND; Supplier 3: Digi-Key; Supplier Part Number 3: WM5552-ND
footprint mmcx-RA
pins: 1 7, 2 7

## MMCX SMD
designator H?, comment MMCX
Header MMCX SMD vertical; Supplier 1: Digi-Key; Supplier Part Number 1: 732-14187-1-ND; Supplier 2: Digi-Key; Supplier Part Number 2: J10059CT-ND
footprint mmcx - SMD
pins: 1 7, 2 7

## MTMM-102-02-S-D-196
designator H?
Header 2x2 TH thru-board 2mm; System: Connector; Supplier 1: Digi-Key; Supplier 2: Digi-Key; Supplier Part Number 2: MTMM-102-02-G-D-196-ND; Supplier Part Number 1: MTMM-102-02-S-D-196-ND
footprint MTMM-102-02-S-D-196
pins: 1, 2, 3, 4

## MTMM-103-03-S-D-243
designator H?
Header 3x2 TH thru-board 2mm; System: Connector; Supplier 1: Digi-Key; Supplier Part Number 1: MTMM-103-03-G-D-243-ND; Supplier 2: Digi-Key; Supplier Part Number 2: MTMM-103-03-G-D-000-ND
footprint MTMM-103-03-S-D-243
pins: 1, 2, 3, 4, 5, 6

## NP45HD-B
designator TP?, comment Spring Contact  (value not drawn)  (no BOM)
footprint NP45HD-B
pins: 1

## NPPC041KFXC-RC
designator H?
Header 4x1 SMT; System: Connector; Supplier 1: Digi-Key; Supplier Part Number 1: S5635-ND; Supplier 2: Digi-Key; Supplier 3: Digi-Key; Supplier Part Number 2: SAM1148-04-ND; Supplier Part Number 3: SAM1152-04-ND
footprint 4 Pin Header SMT Vert
pins: 1, 2, 3, 4

## Pad
designator TP?  (value not drawn)  (no BOM)
Testpoint Pad
footprint Pad
footprint TH PAD
pins: 1

## PES-04-01-S-VT
designator H?
Header 4 Pin PES; System: Connector; Supplier 1: Digi-Key; Supplier Part Number 1: SAM12737-ND
footprint PES-04-01-S-VT
pins: 1, 2, 3, 4, F1, F2

## PET-04-01-S-VT-NL
designator H?
Header 4 Pin PET; System: Connector; Supplier 1: Digi-Key; Supplier 2: Digi-Key; Supplier Part Number 1: SAM16022-ND; Supplier Part Number 2: SAM11555-ND
footprint PET-04-01-S-VT-NL
pins: 1, 2, 3, 4, F1, F2

## PJ-015AH
designator J?, comment PJ-015H
Header Barrel Vertical SMT; Supplier 1: Digi-Key; Supplier Part Number 1: CP-015AHPJ-CT-ND; Supplier 2: Mouser; Supplier Part Number 2: 490-PJ-015AH-SMT-TR
footprint PJ-015AH
pins: 1 +, 2 -, 3 DET

## PJ-044AH
designator J?, comment PJ-044H
Header Barrel Veritcal TH; Supplier 1: Digi-Key; Supplier Part Number 1: CP-044AH-ND; Supplier 2: Mouser; Supplier Part Number 2: 490-PJ-044AH
footprint PJ-044AH
pins: 1 +, 2 -, 3 DET

## PJ-070AH
designator J?
Header Barrel Vertical SMT; Supplier 1: Digi-Key; Supplier Part Number 1: CP-070AHPJDKR-ND; Supplier 2: Mouser; Supplier Part Number 2: 490-PJ-070AH-SMT-TR
footprint PJ-070BH
pins: 1 +, 2 -, 3 DET

## PJ-102AH
designator J?
Header Barrel RA TH; Supplier 1: Digi-Key; Supplier Part Number 1: CP-102AH-ND; Supplier 2: Mouser; Supplier Part Number 2: 490-PJ-102AH
footprint PJ-102AH
pins: 1 +, 2 -, 3 DET

## PPPC041LFBN-RC
designator H?
Header 4x1 TH; System: Connector; Supplier 1: Digi-Key; Supplier Part Number 1: S7037-ND; Supplier 2: Digi-Key; Supplier Part Number 2: 952-1791-ND
footprint 4 pin TH header Vert
pins: 1, 2, 3, 4

## PPPC051LFBN-RC
designator H?
Header 5x1 TH; System: Connector; Supplier 1: Digi-Key; Supplier Part Number 1: S7038-ND; Supplier 2: Digi-Key; Supplier Part Number 2: 952-1801-ND
footprint 5 pin TH header Vert
pins: 1, 2, 3, 4, 5

## PPPC102LJBN-RC
designator H?
Header 10x2 TH RA; System: Connector; Supplier 1: Digi-Key; Supplier 2: Digi-Key; Supplier Part Number 1: S5563-ND; Supplier Part Number 2: S9205-ND
footprint PPPC102LJBN-RC
pins: 1, 2, 3, 4, 5, 6, 7, 8, 9, 10, 11 1, 12, 13, 14, 15, 16, 17, 18, 19, 20

## QSE-020-01-F-D-A
designator H?
Header 40 Pin QSE; System: Connector; Supplier 1: Digi-Key; Supplier 2: Digi-Key; Supplier Part Number 1: SAM8123-ND; Supplier Part Number 2: SAM8955-ND
footprint QSE-020-01-F-D-A
pins: 1, 2, 3, 4, 5, 6, 7, 8, 9, 10, 11, 12, 13, 14, 15, 16, 17, 18, 19, 20, 21, 22, 23, 24, 25, 26, 27, 28, 29, 30, 31, 32, 33, 34, 35, 36, 37, 38, 39, 40, G

## QTE-020-04-F-D-A
designator H?
Header 40 Pin QTE 16mm; System: Connector; Supplier 1: Digi-Key; Supplier Part Number 1: SAM14254CT-ND; Supplier 2: Digi-Key; Supplier Part Number 2: SAM11610-ND; Supplier 3: Digi-Key; Supplier Part Number 3: SAM12778-ND; Supplier 4: Digi-Key; Supplier Part Number 4: 612-QTE-020-04-L-D-A-K-TRCT-ND
footprint QTE-020-04-F-D-A
pins: 1, 2, 3, 4, 5, 6, 7, 8, 9, 10, 11, 12, 13, 14, 15, 16, 17, 18, 19, 20, 21, 22, 23, 24, 25, 26, 27, 28, 29, 30, 31, 32, 33, 34, 35, 36, 37, 38, 39, 40, G

## QTE-020-05-F-D-A
designator H?
Header 40 Pin QTE 19mm; System: Connector; Supplier 1: Digi-Key; Supplier Part Number 2: SAM10661-ND; Supplier Part Number 1: SAM9807-ND; Supplier 2: Digi-Key
footprint QTE-020-05-F-D-A
pins: 1, 2, 3, 4, 5, 6, 7, 8, 9, 10, 11, 12, 13, 14, 15, 16, 17, 18, 19, 20, 21, 22, 23, 24, 25, 26, 27, 28, 29, 30, 31, 32, 33, 34, 35, 36, 37, 38, 39, 40, G

## S01-50250500
designator M?
EMI Shield; Supplier 1: Digi-Key; Supplier Part Number 1: 952-2642-ND; Supplier 2: Mouser; Supplier Part Number 2: 855-S01-50250500
footprint S01-50250500 (RF Shield)
text: RF Shield

## S02-30200250
designator M?
EMI Shield; Supplier 1: Digi-Key; Supplier 2: Mouser; Supplier Part Number 1: 952-2634-ND; Supplier Part Number 2: 855-S02-30200250
footprint S02-30200250 (RF Shield)
text: RF Shield

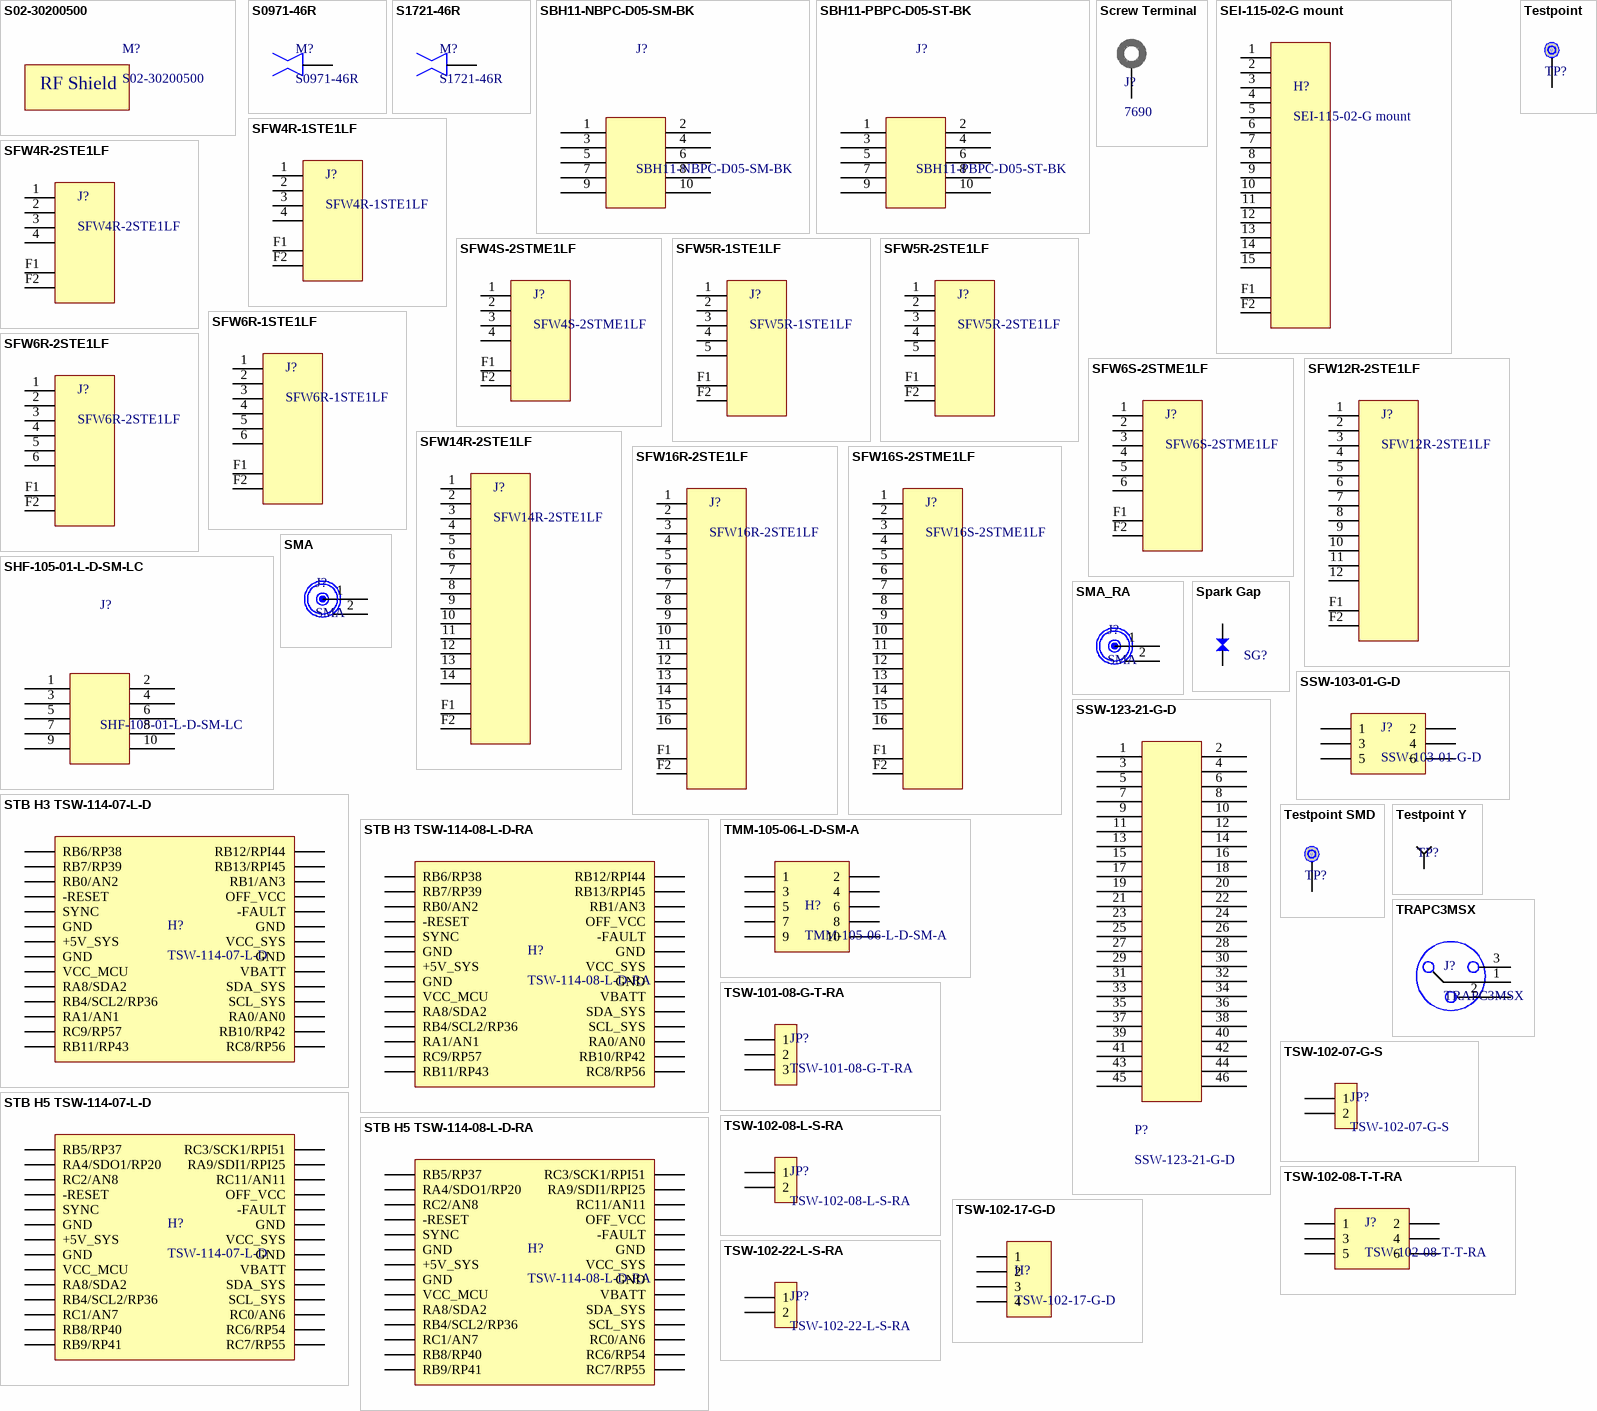
[diagram p7: symbols S02-30200500 to TSW-102-22-L-S-RA]

## S02-30200500
designator M?
EMI Shield; Supplier 1: Digi-Key; Supplier 2: Mouser; Supplier Part Number 1: 952-2640-ND; Supplier Part Number 2: 855-S01-30200500
footprint S02-30200500 (RF Shield)
text: RF Shield

## S0971-46R
designator M?
EMI Shield clip; Supplier 1: Digi-Key; Supplier Part Number 1: 952-2517-1-ND; Supplier 2: Mouser; Supplier Part Number 2: 855-S0971-46R
footprint S0971-46R (EMI Shield Clip)
pins: 1 26

## S1721-46R
designator M?
EMI Shield clip; Supplier 1: Digi-Key; Supplier 2: Mouser; Supplier Part Number 1: 952-1476-1-ND; Supplier Part Number 2: 855-S1721-46R
footprint S1721-46R (EMI Shield Clip)
pins: 1 26

## SBH11-NBPC-D05-SM-BK
designator J?
Header 10 pin Box SMD; System: Connector; Supplier 1: Digi-Key; Supplier Part Number 1: S9185-ND; Supplier 2: Digi-Key; Supplier Part Number 2: AE11081-ND
footprint SBH11-NBPC-D05-SM-BK
pins: 1, 2, 3, 4, 5, 6, 7, 8, 9, 10

## SBH11-PBPC-D05-ST-BK
designator J?
Header 10 pin Box; System: Connector; Supplier 1: Digi-Key; Supplier Part Number 1: S9169-ND; Supplier 2: Digi-Key; Supplier Part Number 2: ED1543-ND
footprint 2x5 Shrouded Box
pins: 1, 2, 3, 4, 5, 6, 7, 8, 9, 10

## Screw Terminal
designator J?, comment 7690
Screw terminal 6-32; Supplier 1: Mouser; Supplier 2: Digi-Key; Supplier Part Number 1: 534-7690; Supplier Part Number 2: 36-7690-ND
footprint Screw terminal 6-32
pins: 1

## SEI-115-02-G mount
designator H?  (no BOM)
Header 15 pin compression; System: Connector
footprint SEI-115-02-MTI_MATE_FP
pins: 1, 2, 3, 4, 5, 6, 7, 8, 9, 10, 11, 12, 13, 14, 15, F1 F, F2 F

## SFW4R-1STE1LF
designator J?
Header Flex Connector 4 pin; bottom side; Supplier 1: Digi-Key; Supplier Part Number 1: 609-1883-1-ND; Supplier 2: Mouser; Supplier Part Number 2: 649-SFW4R-1STE1LF; System: Connector
footprint SFW4R-1STE1LF
pins: 1, 2 1, 3 1, 4 1, F1 F, F2 F

## SFW4R-2STE1LF
designator J?
Header Flex Connector 4 pin; top side; Supplier 1: Digi-Key; Supplier Part Number 1: 609-1884-1-ND; Supplier 2: Mouser; Supplier Part Number 2: 649-SFW4R-2STE1LF; System: Connector
footprint SFW4R-2STE1LF
pins: 1, 2 1, 3 1, 4 1, F1 F, F2 F

## SFW4S-2STME1LF
designator J?
Header Flex Connector 4 pin; top side; Supplier 1: Digi-Key; Supplier Part Number 1: 609-1133-1-ND; Supplier 2: Mouser; Supplier 3: Newark; Supplier Part Number 2: 649-SFW4S-2STME1LF; Supplier Part Number 3: 06M0312; Supplier 4: Digi-Key; Supplier Part Number 4: 609-1132-1-ND; System: Connector
footprint SFW4S-2ST(M)E1LF
pins: 1, 2 1, 3 1, 4 1, F1 F, F2 F

## SFW5R-1STE1LF
designator J?
Header Flex Connector 5 pin; bottom side; Supplier 1: Mouser; Supplier 2: Digi-Key; Supplier Part Number 1: 649-SFW5R-1STE1LF; Supplier Part Number 2: 609-1887-1-ND; System: Connector
footprint SFW5R-1STE1LF
pins: 1, 2 1, 3 1, 4 1, 5 1, F1 F, F2 F

## SFW5R-2STE1LF
designator J?
Header Flex Connector 5 pin; top side; Supplier 1: Digi-Key; Supplier 2: Mouser; Supplier Part Number 2: 649-SFW5R-2STE1LF; Supplier Part Number 1: 609-1888-1-ND; System: Connector
footprint SFW5R-2STE1LF
pins: 1, 2 1, 3 1, 4 1, 5 1, F1 F, F2 F

## SFW6R-1STE1LF
designator J?
Header Flex Connector 6 pin; bottom side; Supplier 1: Digi-Key; Supplier Part Number 1: 609-1889-1-ND; Supplier 2: Mouser; Supplier Part Number 2: 649-SFW6R-1STE1LF; System: Connector
footprint SFW6R-1STE1LF
pins: 1, 2 1, 3 1, 4 1, 5 1, 6 1, F1 F, F2 F

## SFW6R-2STE1LF
designator J?
Header Flex Connector 6 pin; top side; Supplier 1: Digi-Key; Supplier Part Number 1: 609-1890-1-ND; Supplier 2: Mouser; Supplier Part Number 2: 649-SFW6R-2STE1LF; System: Connector
footprint SFW6R-2STE1LF
pins: 1, 2 1, 3 1, 4 1, 5 1, 6 1, F1 F, F2 F

## SFW6S-2STME1LF
designator J?
Header Flex Connector 6 pin; vertical; Supplier 1: Digi-Key; Supplier 2: Mouser; Supplier Part Number 1: 609-1137-1-ND; Supplier Part Number 2: 649-SFW6S-2STME1LF; Supplier 3: Digi-Key; Supplier Part Number 3: 609-1136-1-ND; System: Connector
footprint SFW6S-2ST(M)E1LF
pins: 1, 2 1, 3 1, 4 1, 5 1, 6 1, F1 F, F2 F

## SFW12R-2STE1LF
designator J?
Header Flex Connector 12 pin; top side; Supplier 1: Digi-Key; Supplier Part Number 1: 609-1901-1-ND; System: Connector
footprint SFW12R-2STE1LF
pins: 1, 2 1, 3 1, 4 1, 5 1, 6 1, 7 1, 8 1, 9 1, 10 1, 11 1, 12 1, F1 F, F2 F

## SFW14R-2STE1LF
designator J?
Header Flex Connector 14 pin; top side; Supplier 1: Digi-Key; Supplier Part Number 1: 609-1903-1-ND; System: Connector
footprint SFW14R-2STE1LF
pins: 1, 2 1, 3 1, 4 1, 5 1, 6 1, 7 1, 8 1, 9 1, 10 1, 11 1, 12 1, 13 1, 14 1, F1 F, F2 F

## SFW16R-2STE1LF
designator J?
Header Flex Connector 16 pin; top side; Supplier 1: Digi-Key; Supplier Part Number 1: 609-1908-1-ND; System: Connector
footprint SFW16R-2STE1LF
pins: 1, 2 1, 3 1, 4 1, 5 1, 6 1, 7 1, 8 1, 9 1, 10 1, 11 1, 12 1, 13 1, 14 1, 15 1, 16 1, F1 F, F2 F

## SFW16S-2STME1LF
designator J?
Header Flex Connector 16 pin; vertical; Supplier 1: Mouser; Supplier 2: Mouser; Supplier Part Number 1: 649-SFW16S-2STME1LF; Supplier Part Number 2: 649-SFW16S-2STE1LF; System: Connector
footprint SFW16S-2ST(M)E1LF
pins: 1, 2 1, 3 1, 4 1, 5 1, 6 1, 7 1, 8 1, 9 1, 10 1, 11 1, 12 1, 13 1, 14 1, 15 1, 16 1, F1 F, F2 F

## SHF-105-01-L-D-SM-LC
designator J?
Header 10 pin micro JTAG; System: Connector; Supplier 1: Digi-Key; Supplier 2: Mouser; Supplier 3: Mouser; Supplier Part Number 1: SAM8855-ND; Supplier Part Number 2: 200-SHF10501LDSMLC; Supplier Part Number 3: 200-SHF10501LDSMLCTR
footprint SHF-105-01-L-D-SM-LC
pins: 1, 2, 3, 4, 5, 6, 7, 8, 9, 10

## SMA
designator J?
Header SMA Through-hole vertical; Supplier 1: Digi-Key; Supplier Part Number 1: SAM8971-ND; Supplier 2: Digi-Key; Supplier Part Number 2: WM5544-ND
footprint SMA
pins: 1 7, 2 7

## SMA_RA
designator J?, comment SMA
Header SMA Through-hole RA; Supplier 1: Mouser; Supplier 2: Digi-Key; Supplier Part Number 1: 538-73391-0083; Supplier Part Number 2: WM26450-ND
footprint SMA - RA
pins: 1 7, 2 7

## Spark Gap
designator SG?  (value not drawn)  (no BOM)
Spark Gap
footprint Spark_Gap
pins: 1, 2

## SSW-103-01-G-D
designator J?
Header 2x3 TH female; System: Connector; Supplier 1: Digi-Key; Supplier Part Number 1: SAM1208-03-ND; Supplier 2: Newark; Supplier Part Number 2: 15P2872
footprint SSW-103-01-G-D
pins: 1, 2, 3, 4, 5, 6

## SSW-123-21-G-D
designator P?
Header 46-pin double row TH; System: Connector; Supplier 1: Mouser; Supplier 2: Digi-Key; Supplier Part Number 1: 200-SSW12321GD; Supplier Part Number 2: SSW-123-21-G-D-ND
footprint SSW-123-21-G-D (SSW-123-21-G-D Samtech 46-pin connector)
pins: 1, 2, 3, 4, 5, 6, 7, 8, 9, 10, 11, 12, 13, 14, 15, 16, 17, 18, 19, 20, 21, 22, 23, 24, 25, 26, 27, 28, 29, 30, 31, 32, 33, 34, 35, 36, 37, 38, 39, 40, 41, 42, 43, 44, 45, 46

## STB H3 TSW-114-07-L-D
designator H?, comment TSW-114-07-L-D
STB Breakout Connector TH Vertical; Supplier 1: Digi-Key; Supplier Part Number 1: SAM1030-14-ND; Supplier 2: Newark; Supplier 3: Digi-Key; Supplier Part Number 2: 12P2069; Supplier Part Number 3: HTSW-114-07-L-D-ND; System: Connector
footprint TSW-114-07-L-D
pins: 1 RB6/RP38, 2 RB12/RPI44, 3 RB7/RP39, 4 RB13/RPI45, 5 RB0/AN2, 6 RB1/AN3, 7 -RESET, 8 OFF_VCC, 9 SYNC, 10 -FAULT, 11 GND, 12 GND, 13 +5V_SYS, 14 VCC_SYS, 15 GND, 16 GND, 17 VCC_MCU, 18 VBATT, 19 RA8/SDA2, 20 SDA_SYS, 21 RB4/SCL2/RP36, 22 SCL_SYS, 23 RA1/AN1, 24 RA0/AN0, 25 RC9/RP57, 26 RB10/RP42, 27 RB11/RP43, 28 RC8/RP56

## STB H3 TSW-114-08-L-D-RA
designator H?, comment TSW-114-08-L-D-RA
STB Breakout Connector TH RA; Supplier 1: Digi-Key; Supplier 2: Digi-Key; Supplier Part Number 1: HTSW-114-08-L-D-RA-ND; Supplier Part Number 2: SAM1041-14-ND; System: Connector
footprint TSW-114-08-L-D-RA (TSW-114-07-L-D)
pins: 1 RB6/RP38, 2 RB12/RPI44, 3 RB7/RP39, 4 RB13/RPI45, 5 RB0/AN2, 6 RB1/AN3, 7 -RESET, 8 OFF_VCC, 9 SYNC, 10 -FAULT, 11 GND, 12 GND, 13 +5V_SYS, 14 VCC_SYS, 15 GND, 16 GND, 17 VCC_MCU, 18 VBATT, 19 RA8/SDA2, 20 SDA_SYS, 21 RB4/SCL2/RP36, 22 SCL_SYS, 23 RA1/AN1, 24 RA0/AN0, 25 RC9/RP57, 26 RB10/RP42, 27 RB11/RP43, 28 RC8/RP56

## STB H5 TSW-114-07-L-D
designator H?, comment TSW-114-07-L-D
STB Breakout Connector TH Vertical; Supplier 1: Digi-Key; Supplier Part Number 1: SAM1030-14-ND; Supplier 2: Newark; Supplier 3: Digi-Key; Supplier Part Number 2: 12P2069; Supplier Part Number 3: HTSW-114-07-L-D-ND; System: Connector
footprint TSW-114-07-L-D
pins: 1 RB5/RP37, 2 RC3/SCK1/RPI51, 3 RA4/SDO1/RP20, 4 RA9/SDI1/RPI25, 5 RC2/AN8, 6 RC11/AN11, 7 -RESET, 8 OFF_VCC, 9 SYNC, 10 -FAULT, 11 GND, 12 GND, 13 +5V_SYS, 14 VCC_SYS, 15 GND, 16 GND, 17 VCC_MCU, 18 VBATT, 19 RA8/SDA2, 20 SDA_SYS, 21 RB4/SCL2/RP36, 22 SCL_SYS, 23 RC1/AN7, 24 RC0/AN6, 25 RB8/RP40, 26 RC6/RP54, 27 RB9/RP41, 28 RC7/RP55

## STB H5 TSW-114-08-L-D-RA
designator H?, comment TSW-114-08-L-D-RA
STB Breakout Connector TH RA; Supplier 1: Digi-Key; Supplier 2: Digi-Key; Supplier Part Number 1: HTSW-114-08-L-D-RA-ND; Supplier Part Number 2: SAM1041-14-ND; System: Connector
footprint TSW-114-08-L-D-RA (TSW-114-07-L-D)
pins: 1 RB5/RP37, 2 RC3/SCK1/RPI51, 3 RA4/SDO1/RP20, 4 RA9/SDI1/RPI25, 5 RC2/AN8, 6 RC11/AN11, 7 -RESET, 8 OFF_VCC, 9 SYNC, 10 -FAULT, 11 GND, 12 GND, 13 +5V_SYS, 14 VCC_SYS, 15 GND, 16 GND, 17 VCC_MCU, 18 VBATT, 19 RA8/SDA2, 20 SDA_SYS, 21 RB4/SCL2/RP36, 22 SCL_SYS, 23 RC1/AN7, 24 RC0/AN6, 25 RB8/RP40, 26 RC6/RP54, 27 RB9/RP41, 28 RC7/RP55

## Testpoint
designator TP?  (value not drawn)  (no BOM)
Testpoint; Supplier 1: Digi-Key; Supplier 2: Digi-Key; Supplier Part Number 1: 36-5002-ND; Supplier Part Number 2: 36-5001-ND
footprint Testpoint
footprint TH PAD
footprint GND Testpoint
pins: 1

## Testpoint SMD
designator TP?  (value not drawn)  (no BOM)
Testpoint SMD
footprint Testpoint - SMD
footprint Testpoint - SMD - SM Defined
pins: 1

## Testpoint Y
designator TP?  (value not drawn)  (no BOM)
Testpoint
footprint Testpoint
footprint TH PAD
pins: 1

## TMM-105-06-L-D-SM-A
designator H?
Header 5x2 SMD 2mm pitch; System: Connector; Supplier 1: Digi-Key; Supplier Part Number 1: SAM12979-ND; Supplier 2: Digi-Key; Supplier 3: Digi-Key; Supplier 4: Digi-Key; Supplier 5: Digi-Key; Supplier 6: Digi-Key; Supplier Part Number 2: TMM-105-06-L-D-SM-A-P-ND; Supplier Part Number 3: TMM-105-06-S-D-SM-A-ND; Supplier Part Number 4: TMM-105-06-S-D-SM-A-P-ND; Supplier Part Number 5: TMM-105-06-G-D-SM-A-P-ND; Supplier Part Number 6: TMM-105-06-G-D-SM-A-ND
footprint TMM-105-06-G-D-SM
pins: 1, 2, 3, 4, 5, 6, 7, 8, 9, 10

## TRAPC3MSX
designator J?
Header Circular 3 pin; Supplier 1: Digi-Key; Supplier Part Number 1: SC2005-ND; Supplier 2: Mouser; Supplier Part Number 2: 502-TRAPC3MSX
footprint TRAPC3MSX
pins: 1, 2, 3

## TSW-101-08-G-T-RA
designator JP?
Header 3x1 TH RA; System: Connector; Supplier 1: Digi-Key; Supplier 2: Digi-Key; Supplier Part Number 1: SAM12297-ND; Supplier Part Number 2: SAM15939-ND
footprint 3x1 0.100" header RA
pins: 1, 2, 3

## TSW-102-07-G-S
designator JP?
Header 2x1 TH; System: Connector; Mass_g: 0.03564; Supplier 1: Digi-Key; Supplier Part Number 1: SAM1029-02-ND; Supplier 2: Digi-Key; Supplier 3: Digi-Key; Supplier 4: Digi-Key; Supplier Part Number 2: SAM10844-ND; Supplier Part Number 3: SAM8920-ND; Supplier Part Number 4: SAM10532-ND
footprint HDV1X2HTH (Connector; Header; 2 Position; Vertical. Through hole)
pins: 1, 2

## TSW-102-08-L-S-RA
designator JP?
Header 2x1 RA TH; System: Connector; Supplier 1: Digi-Key; Supplier Part Number 1: SAM1043-02-ND; Supplier 2: Digi-Key; Supplier 3: Digi-Key; Supplier 4: Digi-Key; Supplier Part Number 2: SAM10325-ND; Supplier Part Number 3: HTSW-102-08-G-S-RA-ND; Supplier Part Number 4: SAM1039-02-ND
footprint HDR1X2HTH (Connector; Header; 3 Position; Right Angle. Through hole)
pins: 1, 2

## TSW-102-08-T-T-RA
designator J?
Header 3x2 TH RA; System: Connector; Supplier 1: Digi-Key; Supplier Part Number 1: TSW-102-08-T-T-RA-ND; Supplier 2: Avnet; Supplier Part Number 2: TSW-102-08-T-T-RA
footprint 3x2 0.100" header RA
pins: 1, 2, 3, 4, 5, 6

## TSW-102-17-G-D
designator H?
Header 4 Pin TSW; System: Connector; Supplier 1: Digi-Key; Supplier Part Number 1: SAM1060-02-ND; Supplier 2: Digi-Key; Supplier 3: Newark; Supplier Part Number 2: HTSW-102-17-G-D-ND; Supplier Part Number 3: 12P1284
footprint TSW-102-17-G-D
pins: 1, 2, 3, 4

## TSW-102-22-L-S-RA
designator JP?
Header 2x1 RA TH raised; System: Connector; Supplier 1: Digi-Key; Supplier Part Number 1: TSW-102-22-L-S-RA-ND; Supplier 2: Digi-Key; Supplier 3: Newark; Supplier Part Number 2: HTSW-102-22-L-S-RA-ND; Supplier Part Number 3: 79P3649
footprint TSW-102-22-L-S-RA (Connector; Header; 3 Position; Right Angle. Through hole)
pins: 1, 2

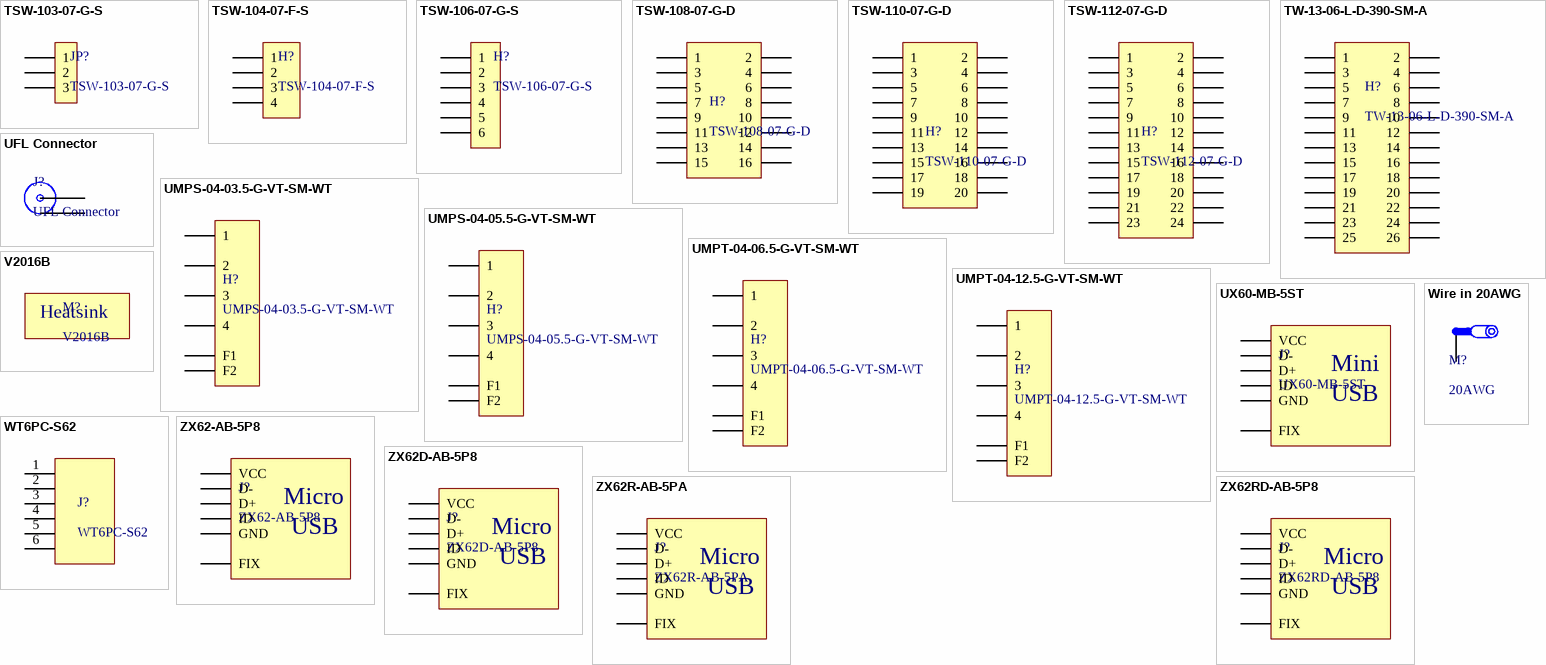
[diagram p8: symbols TSW-103-07-G-S to ZX62RD-AB-5P8]

## TSW-103-07-G-S
designator JP?
Header 3x1 TH; System: Connector; Mass_g: 0.15; Supplier 1: Digi-Key; Supplier Part Number 1: SAM1029-03-ND; Supplier 2: Digi-Key; Supplier 3: Digi-Key; Supplier 4: Digi-Key; Supplier Part Number 2: SAM8814-ND; Supplier Part Number 3: SAM8922-ND; Supplier Part Number 4: SAM1031-03-ND
footprint 3x1 0.100" header
footprint 3x1 0.100" header - No Silk
pins: 1, 2, 3

## TSW-104-07-F-S
designator H?
Header 4x1 TH; System: Connector; Supplier 1: Digi-Key; Supplier 2: Digi-Key; Supplier Part Number 1: SAM1031-04-ND; Supplier Part Number 2: 609-3255-ND
footprint 4 pin TH header
pins: 1, 2, 3, 4

## TSW-106-07-G-S
designator H?
Header 6x1 TH; System: Connector; Supplier 1: Digi-Key; Supplier Part Number 1: SAM1029-06-ND; Supplier 2: Digi-Key; Supplier 3: Digi-Key; Supplier 4: Digi-Key; Supplier Part Number 2: SAM10539-ND; Supplier Part Number 3: SAM1031-06-ND; Supplier Part Number 4: HTSW-106-07-L-S-ND
footprint 6x1 0.100" header
pins: 1, 2, 3, 4, 5, 6

## TSW-108-07-G-D
designator H?
Header 8x2 Pin; System: Connector*; Supplier 1: Digi-Key; Supplier Part Number 1: SAM1028-08-ND; Supplier 2: Digi-Key; Supplier Part Number 2: SAM10540-ND
footprint TSW-108-07-G-D (ESQ-126-37-G-D Samtech 52-pin connector)
pins: 1, 2, 3, 4, 5, 6, 7, 8, 9, 10, 11, 12, 13, 14, 15, 16

## TSW-110-07-G-D
designator H?
Header 10x2 Pin; System: Connector; Supplier 1: Digi-Key; Supplier Part Number 1: SAM1028-10-ND; Supplier 2: Mouser; Supplier Part Number 2: 200-TSW11007GD
footprint TSW-110-07-G-D
pins: 1, 2, 3, 4, 5, 6, 7, 8, 9, 10, 11, 12, 13, 14, 15, 16, 17, 18, 19, 20

## TSW-112-07-G-D
designator H?
Header 12x2 Pin; System: Connector; Mass_g: 0.42768; Supplier 1: Digi-Key; Supplier Part Number 1: SAM1028-12-ND; Supplier 2: Digi-Key; Supplier Part Number 2: HTSW-112-07-G-D-ND
footprint TSW-112-07-G-D (ESQ-126-37-G-D Samtech 52-pin connector)
pins: 1, 2, 3, 4, 5, 6, 7, 8, 9, 10, 11, 12, 13, 14, 15, 16, 17, 18, 19, 20, 21, 22, 23, 24

## TW-13-06-L-D-390-SM-A
designator H?
Header 13x2 TH 2mm pitch; System: Connector; Supplier 1: Newark; Supplier Part Number 1: 73X0656; Supplier 2: Newark; Supplier Part Number 2: 73X0584
footprint TW-13-06-X-D-390-SM-A
pins: 1, 2, 3, 4, 5, 6, 7, 8, 9, 10, 11, 12, 13, 14, 15, 16, 17, 18, 19, 20, 21, 22, 23, 24, 25, 26

## UFL Connector
designator J?
Mass_g: 0.15; Supplier 1: Digi-Key; Supplier 2: Digi-Key; Supplier 3: Digi-Key; Supplier Part Number 1: 931-1107-1-ND; Supplier Part Number 2: H11891CT-ND; Supplier Part Number 3: H9161CT-ND
footprint UFL Connector
footprint UFL Connector - HV
pins: 1 2, 2 3

## UMPS-04-03.5-G-VT-SM-WT
designator H?
Header 4 Pin UMPS 3.5mm; System: Connector; Supplier 1: Digi-Key; Supplier 2: Mouser; Supplier Part Number 1: SAM16067CT-ND; Supplier Part Number 2: 200-UMPS43.5GVTSMWTK
footprint UMPS-04-03.5-G-VT-SM-WT
pins: 1, 2, 3, 4, F1, F2

## UMPS-04-05.5-G-VT-SM-WT
designator H?
Header 4 Pin UMPS 5.5mm; System: Connector; Supplier 1: Digi-Key; Supplier 2: Mouser; Supplier Part Number 1: SAM16071CT-ND; Supplier Part Number 2: 200-UMPS45.5GVTSMWTK
footprint UMPS-04-05.5-G-VT-SM-WT
pins: 1, 2, 3, 4, F1, F2

## UMPT-04-06.5-G-VT-SM-WT
designator H?
Header 4 Pin UMPT 6.5mm; System: Connector; Supplier 1: Digi-Key; Supplier 2: Mouser; Supplier Part Number 1: SAM16063CT-ND; Supplier Part Number 2: 200-UMPT46.5GVTSMWTK
footprint UMPT-04-06.5-G-VT-SM-WT
pins: 1, 2, 3, 4, F1, F2

## UMPT-04-12.5-G-VT-SM-WT
designator H?
Header 4 Pin UMPT 12.5mm; System: Connector
footprint UMPT-04-12.5-G-VT-SM-WT
pins: 1, 2, 3, 4, F1, F2

## UX60-MB-5ST
designator J?
Header USB Mini B; Supplier 1: Digi-Key; Supplier Part Number 1: H2959CT-ND; Supplier 2: Digi-Key; Supplier Part Number 2: H2961CT-ND
footprint USB Mini B
pins: 1 VCC, 2 D-, 3 D+, 4 ID, 5 GND, F FIX
text: Mini; USB

## V2016B
designator M?
Heatsink 8.5mmx8.5mm; Supplier 1: Digi-Key; Supplier Part Number 1: AE11388-ND
footprint V2016B
text: Heatsink

## Wire in 20AWG
designator M?, comment 20AWG
Wire to board, 20AWG
footprint 20 AWG Hole
pins: 1

## WT6PC-S62
designator J?
Connector AirBorn W series 6 pin
pins: 1, 2, 3 1, 4 1, 5 1, 6 1

## ZX62-AB-5P8
designator J?
Header USB Micro AB bottom side SMD; Supplier 1: Digi-Key; Supplier 2: Mouser; Supplier 3: Digi-Key; Supplier 4: Digi-Key; Supplier 5: Digi-Key; Supplier Part Number 1: H125279CT-ND; Supplier Part Number 3: H11635CT-ND; Supplier Part Number 2: 798-ZX62-AB-5PA31; Supplier Part Number 4: A97799CT-ND; Supplier Part Number 5: 455-2885-1-ND
footprint ZX62-AB-5P
pins: 1 VCC, 2 D-, 3 D+, 4 ID, 5 GND, F FIX
text: Micro; USB

## ZX62D-AB-5P8
designator J?
Header USB Micro AB bottom side; Supplier 1: Digi-Key; Supplier 2: Digi-Key; Supplier 3: Mouser; Supplier 4: Digi-Key; Supplier 5: Digi-Key; Supplier 6: Digi-Key; Supplier Part Number 1: H11494CT-ND; Supplier Part Number 2: H125271CT-ND; Supplier Part Number 3: 798-ZX62D-AB-5P830; Supplier Part Number 4: WM17143CT-ND; Supplier Part Number 5: H125272CT-ND; Supplier Part Number 6: H125718CT-ND
footprint ZX62D-AB-5P
pins: 1 VCC, 2 D-, 3 D+, 4 ID, 5 GND, F FIX
text: Micro; USB

## ZX62R-AB-5PA
designator J?
Header USB Micro AB top side SMD; Supplier 1: Mouser; Supplier 2: Digi-Key; Supplier 3: Digi-Key; Supplier 4: Mouser; Supplier Part Number 1: 798-ZX62R-AB-5P30; Supplier Part Number 2: H124531CT-ND; Supplier Part Number 3: H125274CT-ND; Supplier Part Number 4: 798-ZX62R-B-5P30
footprint ZX62R-AB-5P
pins: 1 VCC, 2 D-, 3 D+, 4 ID, 5 GND, F FIX
text: Micro; USB

## ZX62RD-AB-5P8
designator J?
Header USB Micro AB top side; Supplier 1: Mouser; Supplier Part Number 1: 798-ZX62RD-AB-5P8; Supplier 2: Digi-Key; Supplier Part Number 2: H11611CT-ND; Supplier 3: Digi-Key; Supplier Part Number 3: H125777CT-ND; Supplier 4: Mouser; Supplier Part Number 4: 798-ZX62RD-AB-5P830; Supplier 5: Digi-Key; Supplier Part Number 5: WM17144CT-ND
footprint ZX62RD-AB-5P
pins: 1 VCC, 2 D-, 3 D+, 4 ID, 5 GND, F FIX
text: Micro; USB